# EAGLE library part LPC824M201JDH20 (library MyLib)
LPC824 microcontroller in TSSOP20 package made by NXP
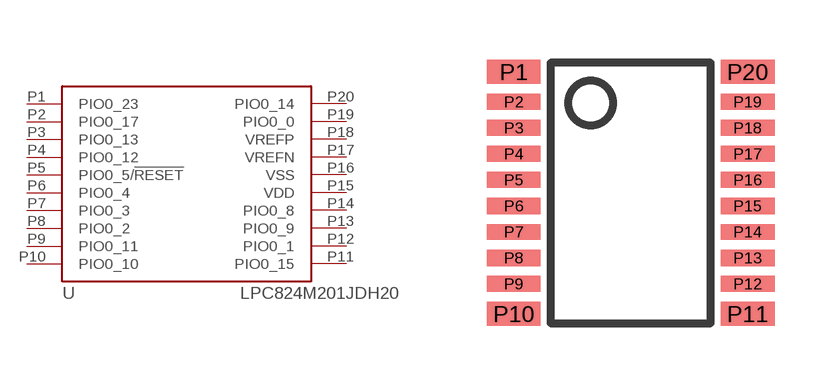
[diagram p0: symbol with the pads of TSSOP20; footprint TSSOP20]

Designator prefix -

## LPC824M201JDH20  [TSSOP20]
P1  PIO0_23
P2  PIO0_17
P3  PIO0_13
P4  PIO0_12
P5  PIO0_5/!RESET
P6  PIO0_4
P7  PIO0_3
P8  PIO0_2
P9  PIO0_11
P10  PIO0_10
P11  PIO0_15
P12  PIO0_1
P13  PIO0_9
P14  PIO0_8
P15  VDD  pwr
P16  VSS  pwr
P17  VREFN
P18  VREFP
P19  PIO0_0
P20  PIO0_14

## Footprint TSSOP20 (pad centres in mm)
TSSOP20 package with dimensions according to LPC82X datasheet
smd 1.35 x 0.6: P1 -2.925,3.025; P10 -2.925,-3.025; P11 2.925,-3.025; P20 2.925,3.025
smd 1.35 x 0.4: P2 -2.925,2.275; P3 -2.925,1.625; P4 -2.925,0.975; P5 -2.925,0.325; P6 -2.925,-0.325; P7 -2.925,-0.975; P8 -2.925,-1.625; P9 -2.925,-2.275; P12 2.925,-2.275; P13 2.925,-1.625; P14 2.925,-0.975; P15 2.925,-0.325; P16 2.925,0.325; P17 2.925,0.975; P18 2.925,1.625; P19 2.925,2.275